# Altium integrated library BC547B.IntLib: 1 symbol
Pins are listed as number, name and electrical type; pins without a type are passive.

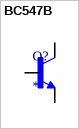
[diagram p0: symbol BC547B]

## BC547B
designator Q?
<a href="https://pricing.snapeda.com/parts/BC337-16%20A1/Taiwan%20Semiconductor/view-part?ref=eda">Check availability</a> <a href="https://pricing.snapeda.com/parts/BC337-16%20A1/Taiwan%20Semiconductor/view-part?ref=eda">Check availability</a>; MP: BC547B; Price: None; Value: *; Package: None; Availability: Unavailable
footprint TO92250P510H770-3
pins: 1 C, 2 B, 3 E